# Altium footprint library 索腾保密柜ZCM_V1_HJ.PcbLib: 58 footprints (part 1 of 4)
Each footprint in its own frame and in the unit in brackets; x right, y up, seen from the top. Pads: shape width x height; smd on the part's side, far side on the other; paste and mask are expansions set on the pad; w line width, h text height; cw(c..) or ccw(c..) is an arc to the next point about the centre after c.
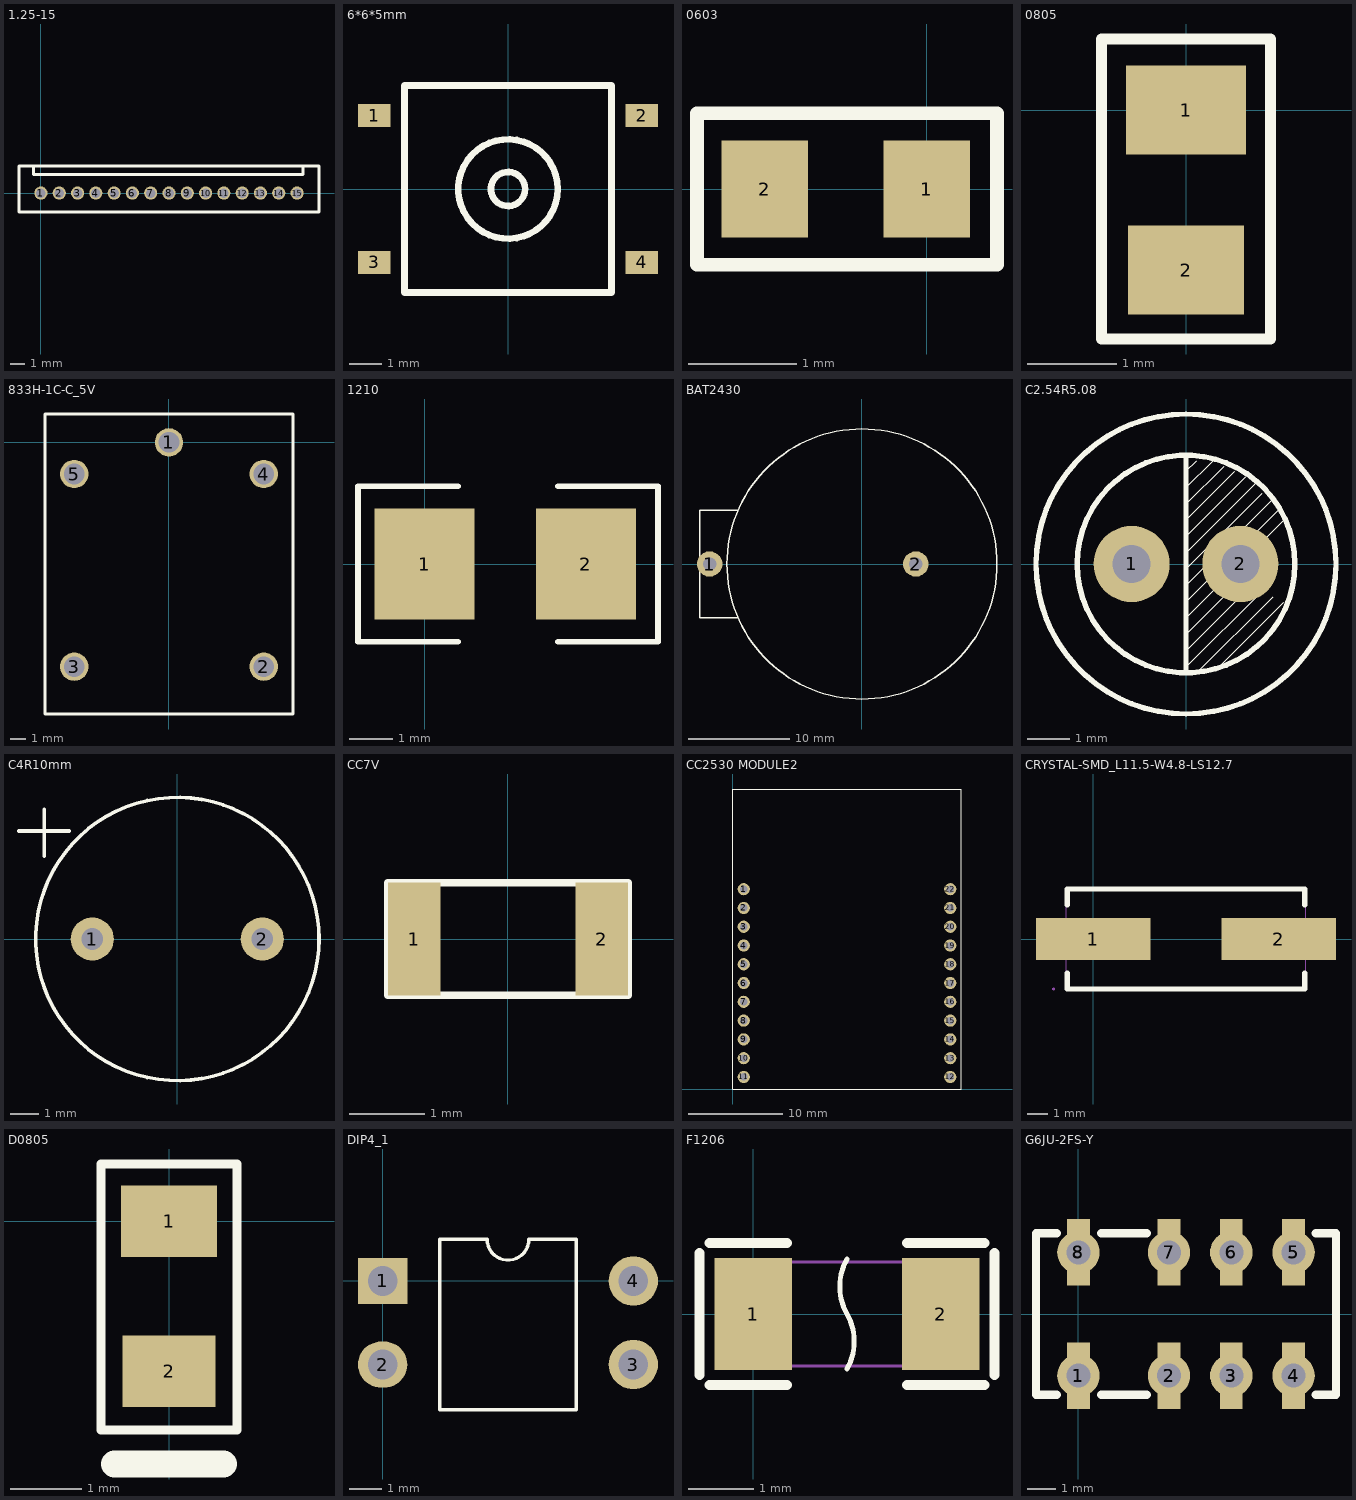
[diagram p0: the footprints below, top view; thin cyan lines are the x and y axes]

## 1.25-15 [mm]
pads (15):
  round 0.9 hole 0.65: 1(0,0) 2(1.25,0) 3(2.5,0) 4(3.75,0) 5(5,0) 6(6.25,0) 7(7.5,0) 8(8.75,0) 9(10,0) 10(11.25,0) 11(12.5,0) 12(13.75,0) 13(15,0) 14(16.25,0) 15(17.5,0)
Top Overlay:
  lines w0.203: -0.508,1.85 -0.508,1.27 17.907,1.27 17.907,1.85 ; -1.5,-1.3 -1.5,1.85 19,1.85 19,-1.3 -1.5,-1.3

## 6*6*5mm [mm]
pads (4):
  rect 1x0.7 smd: 1(-4.1,2.25) 2(4.1,2.25) 3(-4.1,-2.25) 4(4.1,-2.25)
Top Overlay:
  circle w0.203: c0,0 r0.524
  circle w0.203: c0,0 r1.524
  lines w0.203: -3.175,-3.175 -3.175,3.175 3.175,3.175 3.175,-3.175 -3.175,-3.175

## 0603 [mm]
pads (2):
  rect 0.8x0.9 smd: 1(0,0) 2(-1.5,0)
Top Overlay:
  lines w0.127: -2.125,-0.7 0.65,-0.7 0.65,0.7 -2.125,0.7 -2.125,-0.7
3D body "CircuitWorks-CAPACITOR 0603.STEP": height 0.43, standoff -0.43, extent -1.562,-0.411 0.038,0.449

## 0805 [mm]
height 1.5
pads (2):
  rect 1.35x1 smd: 1(0,0)
  rect 1.3x1 smd: 2(0,-1.8)
Top Overlay:
  lines w0.127: -0.95,-2.575 -0.95,0.8 0.95,0.8 0.95,-2.575 -0.95,-2.575

## 833H-1C-C_5V [mm]
height 1.5
pads (5):
  round 1.8 hole 1.3: 1(0,0) 2(6,-14.2) 3(-6,-14.2) 4(6,-2) 5(-6,-2)
Top Overlay:
  lines w0.203: -7.85,-17.2 -7.85,1.8 7.85,1.8 7.85,-17.2 -7.85,-17.2

## 1210 [mil]
height 609.84
pads (2):
  rect 90x100 smd: 1(0,0) 2(145,0)
Top Overlay:
  lines w5: 30,-70 -60,-70 -60,70 30,70 ; 120,-70 210,-70 210,70 120,70

## BAT2430 [mm]
height 0.229
pads (2):
  round 2.5 hole 1.3: 1(-15,0) 2(5.3,0)
Top Overlay:
  circle w0.127: c0,0 r13.3
  lines w0.127: -12.226,-5.3 -16,-5.3 -16,5.3 -12.226,5.3

## C2.54R5.08 [mil]
height 59.06
pads (2):
  round 70 hole 35: 1(-50,0) 2(50,0)
Top Overlay:
  circle w5: c0,0 r137.8
  circle w5: c0,0 r100
  lines w1: 0,-95 70,-25 ; 0,-80 65,-15 ; 0,-65 65,0 ; 0,-50 90,40 ; 0,-35 85,50 ; 0,-20 80,60 ; 0,-5 70,65 ; 0,10 65,75 ; 0,25 55,80 ; 0,40 45,85 ; 0,55 35,90 ; 0,70 25,95 ; 0,85 10,95 ; 10,-100 80,-30 ; 30,-95 90,-35
  lines w5: 0,-100 0,100

## C4R10mm [mil]
height 590.55
pads (2):
  round 60 hole 30: 1(-118.11,0) 2(118.11,0)
Top Overlay:
  circle w5: c0,0 r196.85
  lines w5: -220,150 -150,150 ; -185,115 -185,180

## CC7V [mm]
pads (2):
  rect 0.7x1.5 smd mask+0.051: 1(-1.25,0) 2(1.25,0)
Top Overlay:
  lines w0.1: -1.6,-0.75 1.6,-0.75 1.6,0.75 -1.6,0.75 -1.6,-0.75

## CC2530 MODULE2 [mm]
height 5
pads (22):
  round 1.3 hole 0.8: 1(1.154,21.284) 2(1.154,19.284) 3(1.154,17.284) 4(1.154,15.284) 5(1.154,13.284) 6(1.154,11.284) 7(1.154,9.284) 8(1.154,7.284) 9(1.154,5.284) 10(1.154,3.284) 11(1.154,1.284) 12(23.154,1.284) 13(23.154,3.284) 14(23.154,5.284) 15(23.154,7.284) 16(23.154,9.284) 17(23.154,11.284) 18(23.154,13.284) 19(23.154,15.284) 20(23.154,17.284) 21(23.154,19.284) 22(23.154,21.284)
Top Overlay:
  lines w0.127: -0.001,31.956 24.307,31.956 ; 0,31.956 0,0 24.308,0 24.308,31.956

## CRYSTAL-SMD_L11.5-W4.8-LS12.7 [mm]
pads (2):
  rect 5.5x2 smd: 1(0,0) 2(8.9,0)
Top Overlay:
  lines w0.254: -1.25,-1.65 -1.25,-2.4 10.15,-2.4 10.15,-1.65 ; -1.25,1.65 -1.25,2.4 10.15,2.4 10.15,1.65
Mechanical 15:
  region: -1.9,0.4 2.6,0.4 2.6,-0.4 -1.9,-0.4
  region: 10.8,-0.4 6.3,-0.4 6.3,0.4 10.8,0.4
  region: -1.84,-2.4 -1.841,-2.376 -1.876,-2.342 -1.924,-2.342 -1.959,-2.376 -1.96,-2.4 -1.959,-2.424 -1.924,-2.458 -1.876,-2.458 -1.841,-2.424
  lines w0.051: -1.3,-2.4 10.2,-2.4 10.2,2.4 -1.3,2.4 -1.3,-2.4

## D0805 [mm]
height 1.5
pads (2):
  rect 1.35x1 smd: 1(0,0)
  rect 1.3x1 smd: 2(0,-2.1)
Top Overlay:
  lines w0.127: -0.95,-2.921 -0.95,0.8 0.95,0.8 0.95,-2.921 -0.95,-2.921
  lines w0.381: -0.762,-3.4 0.762,-3.4

## DIP4_1 [mm]
pads (4):
  rect 1.5x1.4 hole 0.9: 1(0,0)
  oval 1.5x1.4 hole 0.9: 2(0,-2.54)
  round 1.5 hole 0.9: 3(7.62,-2.54) 4(7.62,0)
Top Overlay:
  lines w0.102: 1.737,-3.912 1.737,1.27 3.175,1.27 ccw(c3.81,1.27) 4.445,1.27 5.883,1.27 5.883,-3.912 1.737,-3.912

## F1206 [mm]
pads (2):
  rect 1.19x1.728 smd: 1(0,0) 2(2.89,0)
Top Overlay:
  lines w0.076: 1.445,-0.845 ccw(c0.713,-0.422) 1.445,0 cw(c2.177,0.422) 1.445,0.845
  lines w0.152: -0.824,-0.94 -0.824,0.94 ; -0.671,-1.093 0.519,-1.093 ; -0.671,1.093 0.519,1.093 ; 2.371,-1.093 3.561,-1.093 ; 2.371,1.093 3.561,1.093 ; 3.714,-0.94 3.714,0.94
Mechanical 15:
  region: 2.545,-0.8 3.045,-0.8 3.045,0.8 2.545,0.8
  region: -0.155,-0.8 0.345,-0.8 0.345,0.8 -0.155,0.8
  region: -0.095,-0.8 -0.096,-0.776 -0.131,-0.742 -0.179,-0.742 -0.214,-0.776 -0.215,-0.8 -0.214,-0.824 -0.179,-0.858 -0.131,-0.858 -0.096,-0.824
  lines w0.051: -0.155,-0.8 -0.155,0.8 3.045,0.8 3.045,-0.8 -0.155,-0.8

## G6JU-2FS-Y [mm]
pads (16):
  rect 0.8x2.35 smd: 1(0,-2.175) 2(3.2,-2.175) 3(5.4,-2.175) 4(7.6,-2.175) 5(7.6,2.175) 6(5.4,2.175) 7(3.2,2.175) 8(0,2.175)
  round 1.5 hole 0.85: 1(0,-2.175) 2(3.2,-2.175) 3(5.4,-2.175) 4(7.6,-2.175) 5(7.6,2.175) 6(5.4,2.175) 7(3.2,2.175) 8(0,2.175)
Top Overlay:
  lines w0.3: -0.762,-2.85 -1.5,-2.85 -1.5,2.85 -0.762,2.85 ; 0.8,-2.85 2.413,-2.85 ; 0.8,2.85 2.413,2.85 ; 8.382,-2.85 9.1,-2.85 9.1,2.85 8.382,2.85